# Altium footprint library Transistors.PcbLib: 4 footprints
Each footprint in its own frame and in the unit in brackets; x right, y up, seen from the top. Pads: shape width x height; smd on the part's side, far side on the other; paste and mask are expansions set on the pad; w line width, h text height; cw(c..) or ccw(c..) is an arc to the next point about the centre after c.
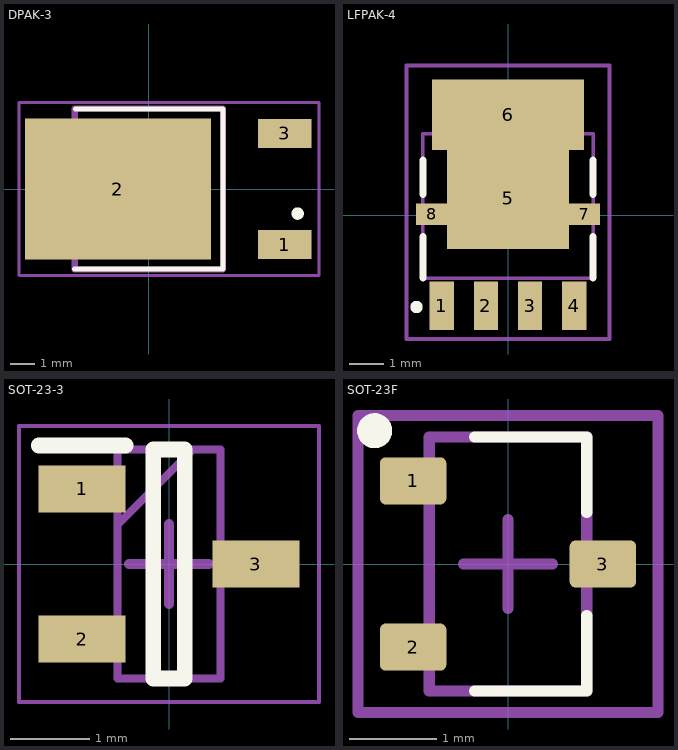
[diagram p0: the footprints below, top view; thin cyan lines are the x and y axes]

## DPAK-3 [mm] "TO-252-3"
pads (3):
  rect 2.2x1.2 smd: 1(5.571,-2.28) 3(5.571,2.28)
  rect 7.62x5.8 smd: 2(-1.27,0)
Top Overlay:
  lines w0.2: -3.048,-3.283 3.048,-3.283 3.048,3.283 -3.01,3.283
  lines w0.254: 6.016,-0.921 cw(c6.107,-1.01) 5.98,-1.01 cw(c6.107,-1.01) 6.234,-1.01
Top Component Center:
  lines w0.127: -0.635,0 0,0 0,0.635 ; -0.003,-0.639 -0.003,-0.004 ; -0.003,-0.001 0.632,-0.001
Top Component Outline:
  lines w0.254: -3.048,-3.302 3.048,-3.302 3.048,3.302 -3.048,3.302 -3.048,-3.302
Top Courtyard:
  lines w0.127: -5.334,-3.556 6.985,-3.556 6.985,3.556 -5.334,3.556 -5.334,-3.556
3D body "IPD220N06L3GATMA1.stp": height 2.35, standoff -0.01, extent -4.231,-3.25 5.625,3.25

## LFPAK-4 [mil] "SOT-1023"
pads (8):
  rect 27.56x55 smd: 1(-75,-102.28) 2(-25,-102.28) 3(25,-102.28) 4(75,-102.28)
  rect 138x115 smd: 5(0,19.37)
  rect 172x80 smd: 6(0,114)
  rect 36x24 smd: 7(86.14,1.46) 8(-86.14,1.46)
Top Overlay:
  lines w7.87: -96.46,-70.87 -96.46,-23.62 ; -96.46,23.62 -96.46,62.99 ; 96.46,-70.98 96.46,-23.62 ; 96.46,23.62 96.46,62.99
  lines w10: -103.74,-105.67 cw(c-103.74,-103.7) -103.74,-101.73 cw(c-103.74,-103.7) -103.74,-105.67
Top Component Center:
  lines w5: -25,0 0,0 ; 0,-25 0,0 ; 0,25 0,0 ; 25,0 0,0 ; -115,-140 115,-140 115,170 -115,170 -115,-140
Top Component Outline:
  lines w3.94: -96.46,-70.98 -96.46,92.44 96.46,92.44 96.46,-70.98 -96.46,-70.98
3D body "MCACLF320N04Y-TP.stp": height 48.62, standoff -1.38, extent -104.33,-115.07 104.33,154.8

## SOT-23-3 [mm]
pads (3):
  rect 1.1x0.6 smd: 1(-1.1,0.95) 2(-1.1,-0.95) 3(1.1,0)
Top Overlay:
  lines w0.2: -1.65,1.5 -0.55,1.5 ; -0.2,-1.45 -0.2,1.45 0.2,1.45 0.2,-1.45 -0.2,-1.45
Top Component Center:
  lines w0.127: -0.508,0 0.508,0 ; 0,-0.508 0,0.508
Top Component Outline:
  lines w0.1: -0.65,0.5 0.3,1.45 ; -0.65,-1.45 -0.65,1.45 0.65,1.45 0.65,-1.45 -0.65,-1.45
Top Courtyard:
  lines w0.05: -1.9,-1.75 -1.9,1.75 1.9,1.75 1.9,-1.75 -1.9,-1.75
3D body "BAV23C-HE3-08.stp": height 1.12, standoff 0, extent -1.212,-1.45 1.212,1.45

## SOT-23F [mm] "SOT-23-3 Flat Lead Version"
pads (3):
  rrect25% 0.76x0.54 smd: 1(-1.085,0.95) 2(-1.085,-0.95) 3(1.085,0)
Top Overlay:
  circle w0.2: c-1.524,1.524 r0.1
  lines w0.127: -0.385,-1.45 0.9,-1.45 0.9,-0.59 ; -0.385,1.45 0.9,1.45 0.9,0.59
Top Component Center:
  lines w0.127: -0.508,0 0,0 ; 0,-0.508 0,0 ; 0,0.508 0,0 ; 0.508,0 0,0
Top Component Outline:
  lines w0.127: -0.9,-1.45 -0.9,1.45 0.9,1.45 0.9,-1.45 -0.9,-1.45
Top Courtyard:
  lines w0.127: -1.715,-1.7 1.715,-1.7 1.715,1.7 -1.715,1.7 -1.715,-1.7
3D body "step_temp.STEP": height 0.88, standoff 0, extent -1.2,-1.45 1.2,1.45